# Altium footprint library SOT404.PcbLib: 1 footprints
Each footprint in its own frame and in the unit in brackets; x right, y up, seen from the top. Pads: shape width x height; smd on the part's side, far side on the other; paste and mask are expansions set on the pad; w line width, h text height; cw(c..) or ccw(c..) is an arc to the next point about the centre after c.
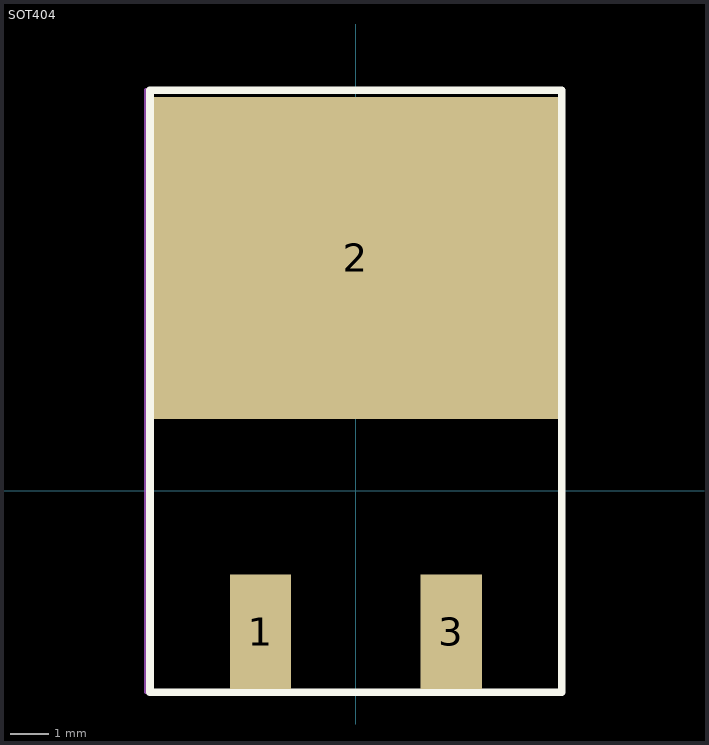
[diagram p0: the footprint, top view; thin cyan lines are the x and y axes]

## SOT404 [mm]
height 0.9
pads (3):
  rect 1.6x3 smd: 1(-2.5,-3.7) 3(2.5,-3.7)
  rect 10.6x8.45 smd: 2(0,6.1)
Top Overlay:
  lines w0.2: -5.4,-5.285 -5.4,10.5 5.4,10.5 5.4,-5.285 -5.4,-5.285
Top Assembly:
  lines w0.1: -5.5,-5.285 -5.5,10.5 5.4,10.5 5.4,-5.285 -5.5,-5.285
  text "'.Designator'" at -0.95,1.94 h0.7
3D body "D2PAK_FERD30M45C_STM.step": height 4.6, standoff -0.05, extent -5.2,-4.139 5.188,9.339